# EAGLE library part SN65MLVD200A_D_8 (library TI)
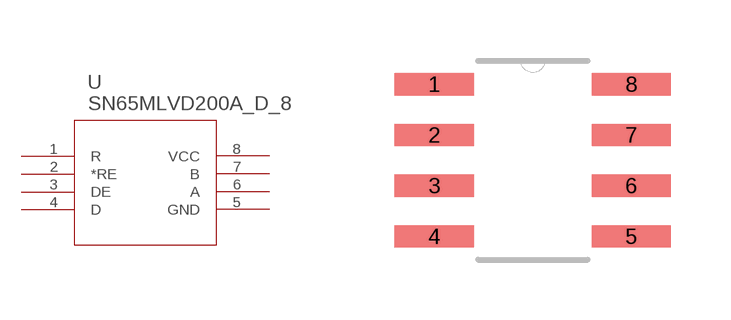
[diagram p0: symbol with the pads of D8; footprint D8]

Designator prefix U

## SN65MLVD200A_D_8 (DATASHEETURL: http://www.ti.com/lit/gpn/SN65MLVD200A; DESCRIPTION: Half-Duplex M-LVDS Transceiver; FAMILY_NAME: M-LVDS PHY (<500MBPS); GENERIC_PART_NUMBER: SN65MLVD200A; INDUSTRY_STD_PKG_TYPE: SOIC; MANUFACTURER: Texas Instruments; MANUFACTURER_PART_NUMBER: sn65mlvd200a_d_8; PACKAGE_DESIGNATOR: D; PIN_COUNT: 8; VENDOR: Texas Instruments)  [D8]
1  R  in
2  *RE  in
3  DE  in
4  D  out
5  GND  pwr
6  A
7  B
8  VCC  pwr

## Footprint D8 (pad centres in mm)
smd 1.981 x 0.559: 1 -2.464,1.905; 2 -2.464,0.635; 3 -2.464,-0.635; 4 -2.464,-1.905; 5 2.464,-1.905; 6 2.464,-0.635; 7 2.464,0.635; 8 2.464,1.905